# EAGLE library part MCP2210-I_SO (library MCP2210-I_SO)
USB to SPI protocol converter,SOIC20 Microchip MCP2210-I/SO, USB to SPI Bridge, SPI/ USB 1-TRX, 12Mbit/s, 20-Pin SOIC Source: Datasheet <http://ww1.microchip.com/downloads/en/DeviceDoc/22288A.pdf>
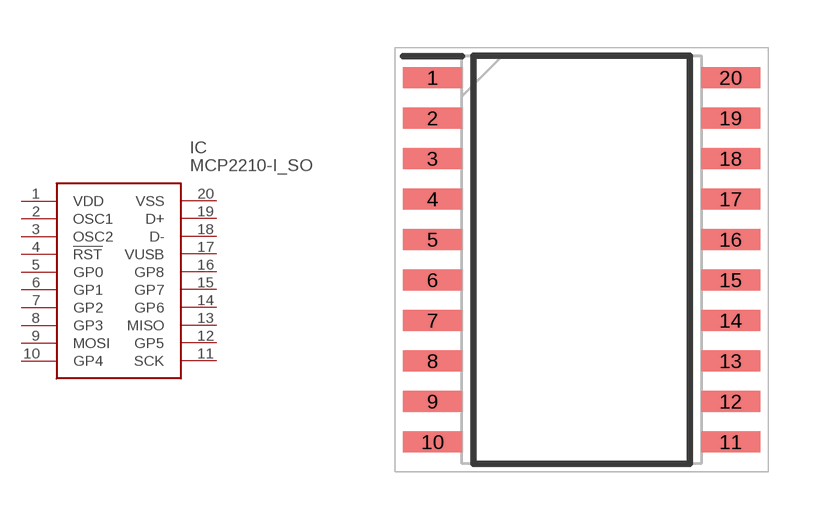
[diagram p0: symbol with the pads of SOIC127P1030X265-20N; footprint SOIC127P1030X265-20N]

Designator prefix IC

## MCP2210-I_SO (Description: USB to SPI protocol converter,SOIC20 Microchip MCP2210-I/SO, USB to SPI Bridge, SPI/ USB 1-TRX, 12Mbit/s, 20-Pin SOIC; Height: 2.65mm; Manufacturer_Name: Microchip; Manufacturer_Part_Number: MCP2210-I/SO; Mouser_Part_Number: 579-MCP2210ISO; Mouser_Price-Stock: https://www.mouser.co.uk/ProductDetail/Microchip-Technology/MCP2210-I-SO?qs=hort8UWU32pZzeweimLewQ%3D%3D)  [SOIC127P1030X265-20N]
1  VDD
2  OSC1
3  OSC2
4  !RST
5  GP0
6  GP1
7  GP2
8  GP3
9  MOSI
10  GP4
11  SCK
12  GP5
13  MISO
14  GP6
15  GP7
16  GP8
17  VUSB
18  D-
19  D+
20  VSS

## Footprint SOIC127P1030X265-20N (pad centres in mm)
20-Lead Plastic Small Outline (SO) - Wide, 7.50 mm Body [SOIC]
smd 1.85 x 0.65: 1 -4.675,5.715; 2 -4.675,4.445; 3 -4.675,3.175; 4 -4.675,1.905; 5 -4.675,0.635; 6 -4.675,-0.635; 7 -4.675,-1.905; 8 -4.675,-3.175; 9 -4.675,-4.445; 10 -4.675,-5.715; 11 4.675,-5.715; 12 4.675,-4.445; 13 4.675,-3.175; 14 4.675,-1.905; 15 4.675,-0.635; 16 4.675,0.635; 17 4.675,1.905; 18 4.675,3.175; 19 4.675,4.445; 20 4.675,5.715